# Altium footprint library PCBLibSynthe.PcbLib: 30 footprints (part 1 of 2)
Each footprint in its own frame and in the unit in brackets; x right, y up, seen from the top. Pads: shape width x height; smd on the part's side, far side on the other; paste and mask are expansions set on the pad; w line width, h text height; cw(c..) or ccw(c..) is an arc to the next point about the centre after c.
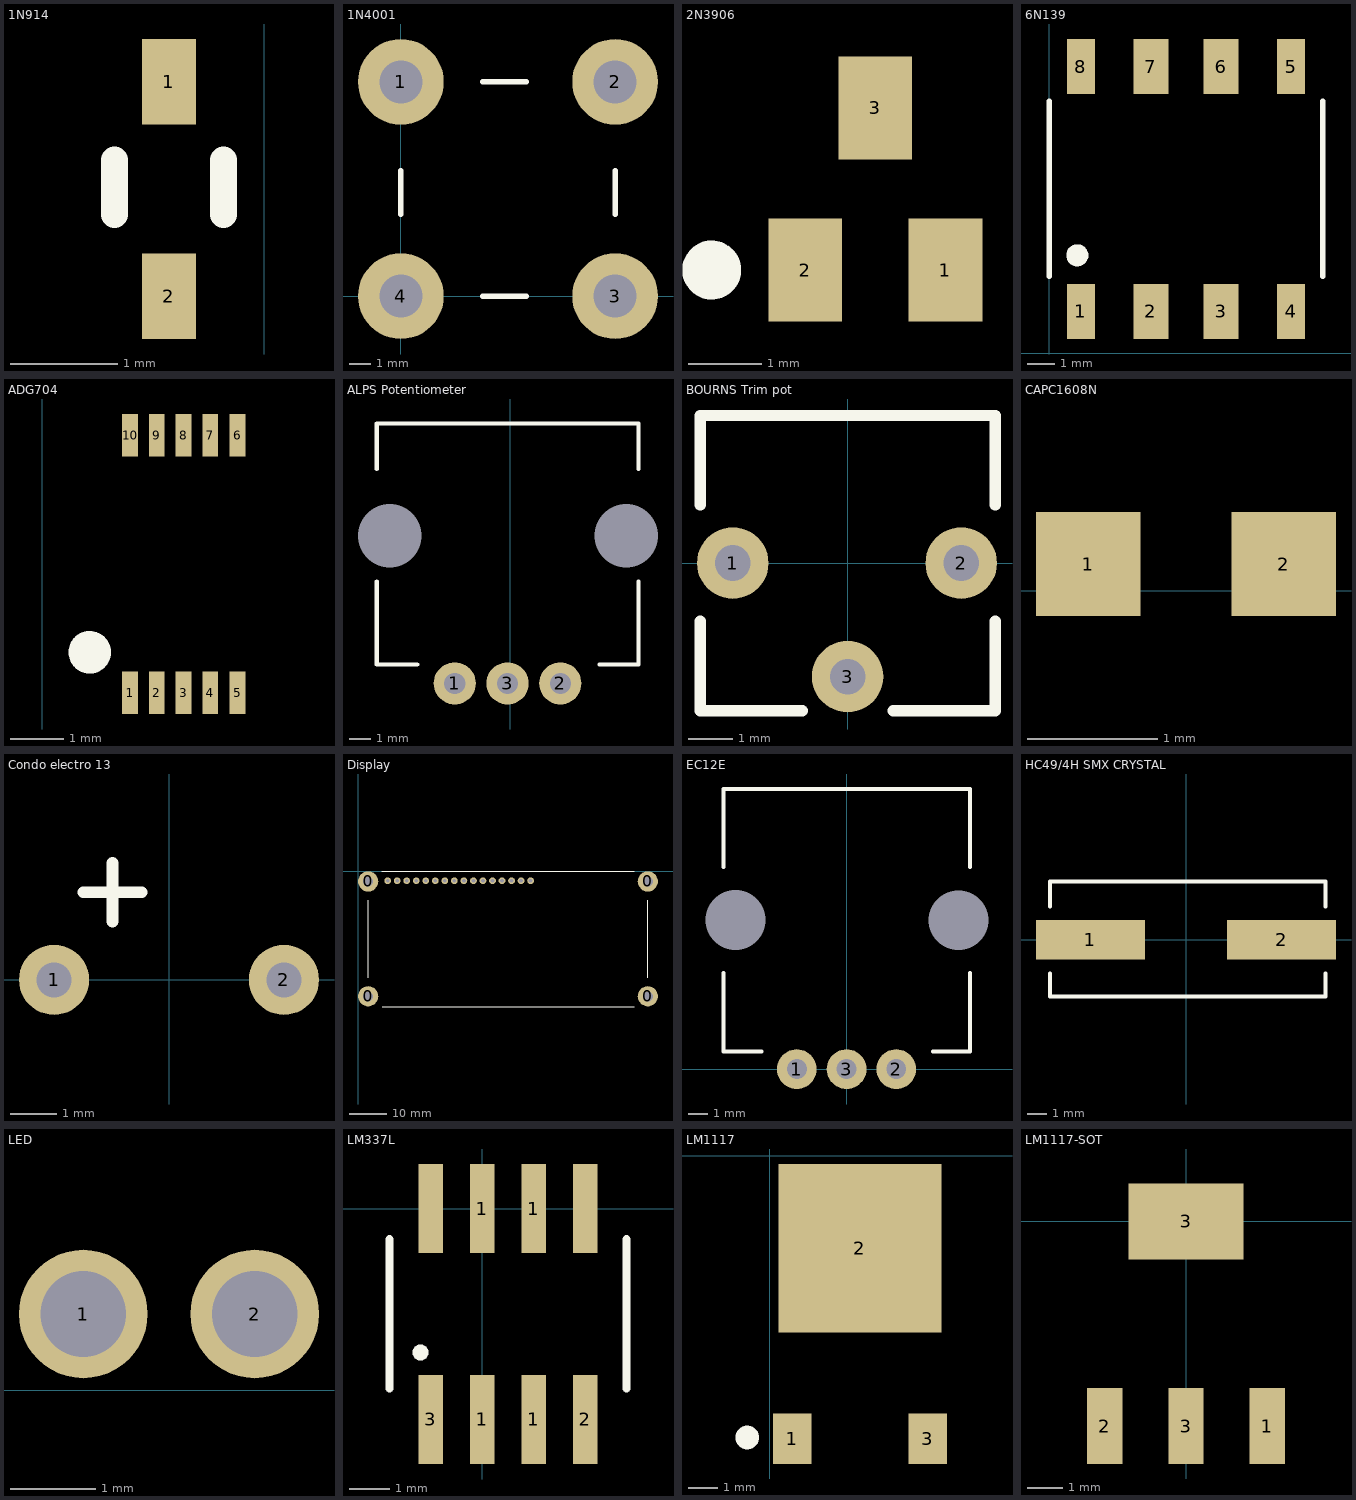
[diagram p0: the footprints below, top view; thin cyan lines are the x and y axes]

## 1N914 [mm] "Diode"
pads (2):
  rect 0.5x0.8 smd: 1(-0.889,3.396) 2(-0.889,1.396)
Top Overlay:
  lines w0.254: -1.397,2.159 -1.397,2.667 ; -0.381,2.159 -0.381,2.667

## 1N4001 [mm] "Diodes Alim"
pads (4):
  round 4 hole 2: 1(0,10) 2(10,10) 3(10,0) 4(0,0)
Top Overlay:
  lines w0.254: 0,3.81 0,5.842 ; 3.81,0 5.842,0 ; 3.81,10 5.842,10 ; 10,3.81 10,5.842

## 2N3906 [mm]
pads (3):
  rect 1x1.4 smd: 1(6.218,3.048) 2(4.318,3.048) 3(5.268,5.248)
Top Overlay:
  circle w0.4: c3.048,3.048 r0.2

## 6N139 [mil] "Optocoupleur"
pads (8):
  rect 40x78.74 smd: 1(45,60) 4(345,60) 5(345,409.13) 8(45,409.13)
  rect 50x78.74 smd: 2(145,60) 3(245,60) 6(245,409.13) 7(145,409.13)
Top Overlay:
  circle w15.75: c40,140 r7.87
  lines w7.87: 0,110 0,360 ; 390,110 390,360

## ADG704 [mm] "Multiplexeur"
pads (10):
  rect 0.3x0.8 smd mask+0.05: 1(1.651,1.651) 2(2.151,1.651) 3(2.659,1.651) 4(3.159,1.651) 5(3.675,1.651) 6(3.675,6.498) 7(3.159,6.498) 8(2.659,6.498) 9(2.151,6.498) 10(1.651,6.498)
Top Overlay:
  circle w0.4: c0.889,2.413 r0.2

## ALPS Potentiometer [mm] "Encodeur"
pads (5):
  round 0 hole 3 mask+0: 0(-5.715,-7.089) 0(5.497,-7.089)
  round 2 hole 1 mask+0: 1(-2.631,-14.089) 2(2.369,-14.089) 3(-0.131,-14.089)
Top Overlay:
  lines w0.2: -6.331,-9.263 -6.331,-13.2 -4.409,-13.2 ; -6.331,-3.929 -6.331,-1.778 6.069,-1.778 6.069,-3.929 ; 4.227,-13.2 6.069,-13.2 6.069,-9.263

## BOURNS Trim pot [mm]
pads (3):
  round 1.6 hole 0.8: 1(-2.57,0) 2(2.54,0) 3(0,-2.54)
Top Overlay:
  lines w0.254: -3.3,-1.302 -3.3,-3.302 -1.016,-3.302 ; -3.3,1.3 -3.3,3.3 0,3.3 3.3,3.3 3.3,1.3 ; 1.016,-3.302 3.3,-3.302 3.3,-1.302

## CAPC1608N [mm]
pads (2):
  rect 0.8x0.8 smd: 1(0.838,0.203) 2(2.337,0.203)

## Condo electro 13 [mil]
pads (2):
  round 60 hole 30: 1(-98.43,0) 2(98.43,0)
Top Overlay:
  lines w10: -73.43,75 -23.43,75 -48.43,75 -48.43,50 -48.43,100

## Display [mm]
pads (20):
  round 5.4 hole 2.7: 0(2.674,-33.34) 0(2.674,-2.733) 0(77.223,-33.34) 0(77.223,-2.733)
  round 1.8 hole 1: 1(7.874,-2.54) 2(10.414,-2.54) 3(12.954,-2.54) 4(15.494,-2.54) 5(18.034,-2.54) 6(20.574,-2.54) 7(23.114,-2.54) 8(25.654,-2.54) 9(28.194,-2.54) 10(30.734,-2.54) 11(33.274,-2.54) 12(35.814,-2.54) 13(38.354,-2.54) 14(40.894,-2.54) 15(43.434,-2.54) 16(45.974,-2.54)
Top Overlay:
  lines w0.2: 2.667,-28.448 2.667,-7.747 ; 6.35,0 73.533,0 ; 6.47,-36.129 73.653,-36.129 ; 77.216,-28.448 77.216,-7.747

## EC12E [mm] "Encodeur"
pads (5):
  round 0 hole 3 mask+0: 0(-5.584,7.5) 0(5.628,7.493)
  round 2 hole 1 mask+0: 1(-2.5,0) 2(2.5,0) 3(0,0)
Top Overlay:
  lines w0.2: -6.2,4.826 -6.2,0.889 -4.278,0.889 ; -6.2,10.16 -6.2,14.089 6.2,14.089 6.2,10.16 ; 4.358,0.889 6.2,0.889 6.2,4.826

## HC49/4H SMX CRYSTAL [mm]
height 4.5
pads (2):
  rect 5.5x2 smd: 1(-4.826,0) 2(4.826,0)
Top Overlay:
  lines w0.2: -6.858,-1.7 -6.858,-2.86 7.042,-2.86 7.042,-1.7 ; -6.858,1.67 -6.858,2.94 7.042,2.94 7.042,1.67

## LED [mm]
pads (2):
  round 1.5 hole 1: 1(1.27,0.889) 2(3.27,0.889)

## LM337L [mm]
pads (9):
  rect 0.6x2.2 smd mask+0.1: 1(0,-5.2) 1(0,0) 1(1.27,-5.2) 1(1.27,0) 2(2.54,-5.2) 3(-1.27,-5.2) ""(-1.27,0) ""(2.54,0)
  round 0.4 on Top Overlay: ""(-1.524,-3.549)
Top Overlay:
  lines w0.2: -2.286,-4.438 -2.286,-0.755 ; 3.556,-4.438 3.556,-0.755

## LM1117 [mm] "Linear regulator"
pads (3):
  rect 1.3x1.7 smd: 1(0.764,-9.57) 3(5.334,-9.57)
  rect 5.5x5.7 smd: 2(3.049,-3.13)
Top Overlay:
  circle w0.4: c-0.762,-9.525 r0.2

## LM1117-SOT [mm]
pads (4):
  rect 1x2.15 smd: 1(2.3,-5.8) 2(-2.3,-5.8) 3(0,-5.8)
  rect 3.25x2.15 smd: 3(0,0)